# Altium integrated library ICs.IntLib: 97 symbols (part 2 of 3)
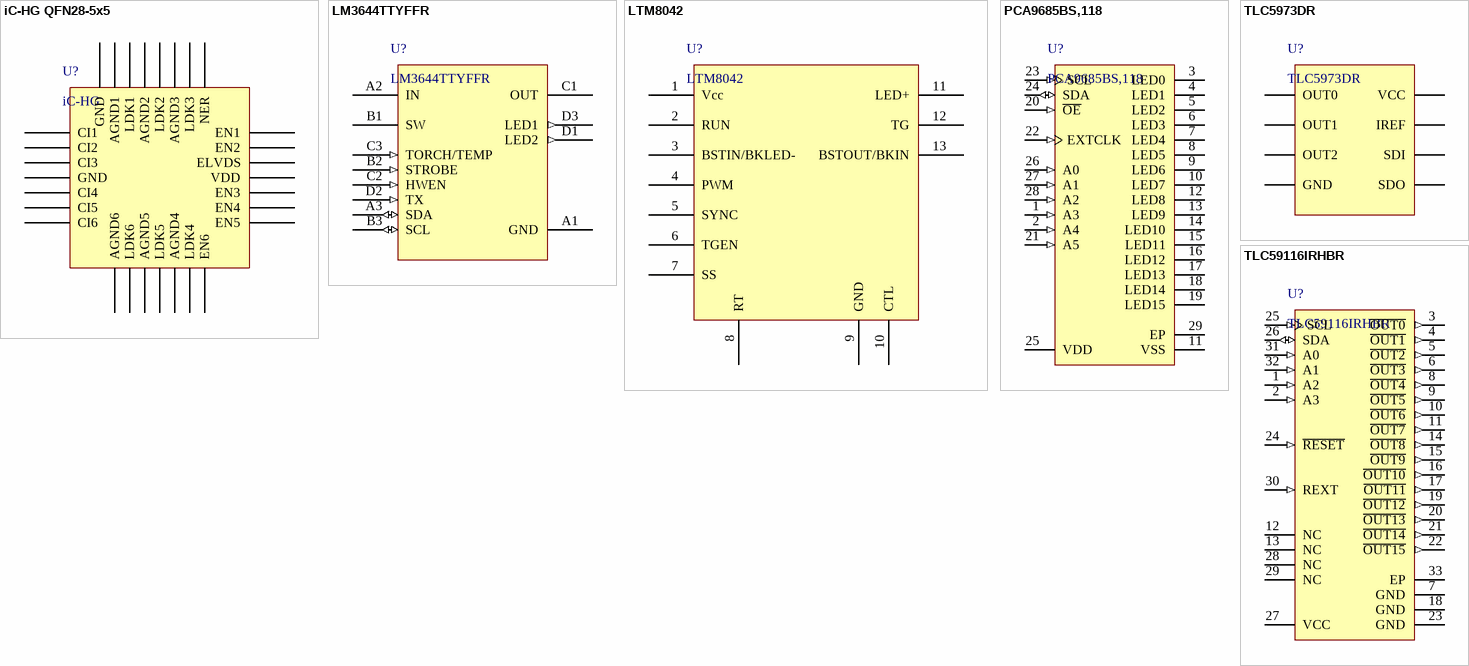
[diagram p37: symbols iC-HG QFN28-5x5 to TLC59116IRHBR]

## TLC59116IRHBR
designator U?
IC LED DRVR LIN DIM 120MA 32VQFN; Manufacturer: Texas Instruments; PartNumber: TLC59116IRHBR; PackageReference: QFN-32; Mounting Technology: Surface Mount
footprint VQFN-32 (QFN, 32-Leads, Body 5x5mm, Pitch 0.5mm, Thermal Pad 3.45x3.45mm)
pins: 1 A2 (in) "Address input 2", 2 A3 (in) "Address input 3", 3 ~{OUT0} (out) "Constant current output 0", 4 ~{OUT1} (out) "Constant current output 1", 5 ~{OUT2} (out) "Constant current output 2", 6 ~{OUT3} (out) "Constant current output 3", 7 GND (power) "Ground", 8 ~{OUT4} (out) "Constant current output 4", 9 ~{OUT5} (out) "Constant current output 5", 10 ~{OUT6} (out) "Constant current output 6", 11 ~{OUT7} (out) "Constant current output 7", 12 NC "No internal connection", 13 NC "No internal connection", 14 ~{OUT8} (out) "Constant current output 8", 15 ~{OUT9} (out) "Constant current output 9", 16 ~{OUT10} (out) "Constant current output 10", 17 ~{OUT11} (out) "Constant current output 11", 18 GND (power) "Ground", 19 ~{OUT12} (out) "Constant current output 12", 20 ~{OUT13} (out) "Constant current output 13", 21 ~{OUT14} (out) "Constant current output 14", 22 ~{OUT15} (out) "Constant current output 15", 23 GND (power) "Ground", 24 ~{RESET} (in) "Active-low reset input", 25 SCL (in) "Serial clock input", 26 SDA (io) "Serial data input/output", 27 VCC (power) "Power supply", 28 NC "No internal connection", 29 NC "No internal connection", 30 REXT (in) "Input terminal used to connect an external resistor for setting up all output currents", 31 A0 (in) "Address input 0", 32 A1 (in) "Address input 1", 33 EP (power) "If used, the exposed thermal pad must be connected as a secondary ground."


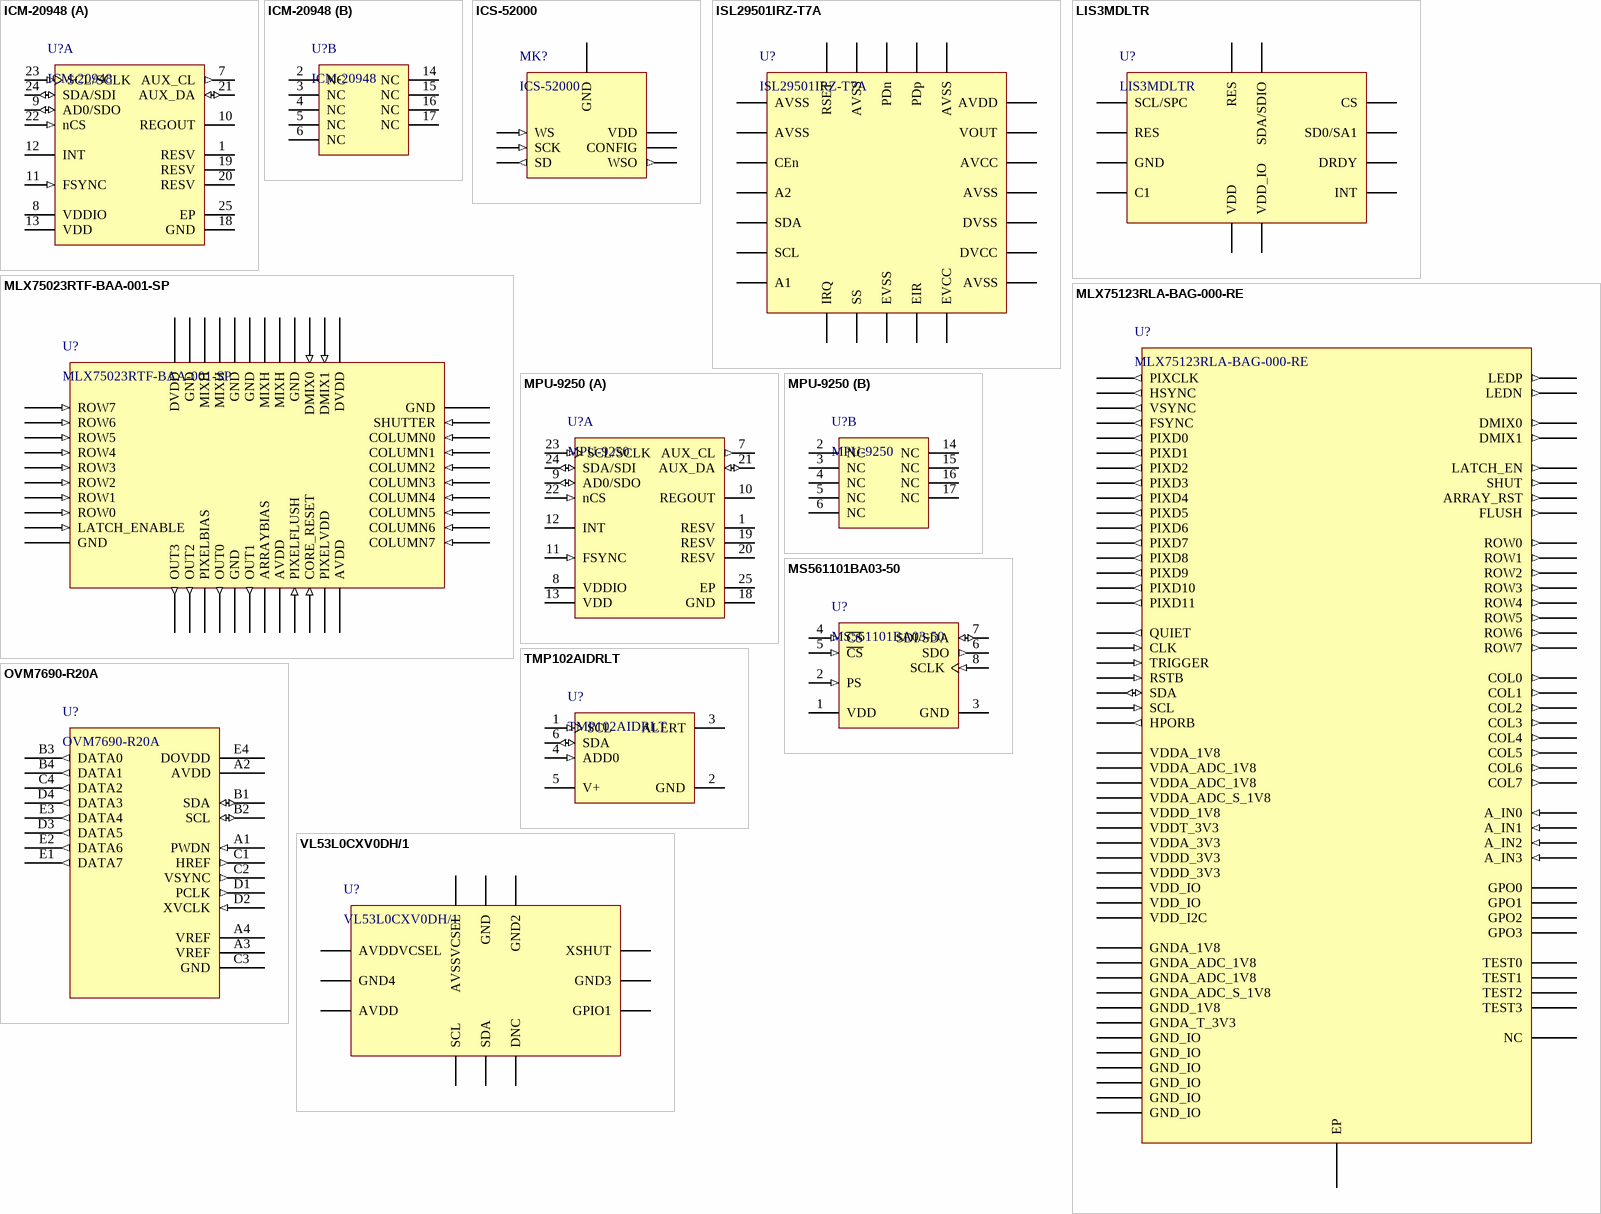
[diagram p19: symbols ICM-20948 to VL53L0CXV0DH/1]

## ICM-20948
designator U?
Manufacturer: Invensense; PartNumber: ICM-20948; Mounting Technology: Surface Mount; PackageReference: QFN-24
footprint QFN-24 (0.4MM) (QFN, 24-Leads, Body 3.1x3.1mm, Pitch 0.40mm, Thermal Pad 1.54x1.70mm, IPC High Density)
part A pins: 1 RESV (power) "Reserved. Connect to VDDIO", 7 AUX_CL (out) "I2C Master serial clock, for connecting to external sensors", 8 VDDIO (power) "Digital I/O supply voltage", 9 AD0/SDO (io) "I2C Slave Address LSB (AD0); SPI serial data output (SDO)", 10 REGOUT "Regulator filter capacitor connection", 11 FSYNC (in) "Frame synchronization digital input. Connect to GND if unused", 12 INT (hiz) "Interrupt digital output (totem pole or open-drain)", 13 VDD (power) "Power supply voltage and Digital I/O supply voltage", 18 GND (power) "Pow er supply ground", 19 RESV "Reserved. Do not connect", 20 RESV (power) "Reserved. Connect to GND", 21 AUX_DA (io) "I2C master serial data, for connecting to external sensors", 22 nCS (in) "Chip select (SPI mode only)", 23 SCL/SCLK (in) "I2C serial clock (SCL); SPI serial clock (SCLK)", 24 SDA/SDI (io) "I2C serial data (SDA); SPI serial data input (SDI)", 25 EP
part B pins: 2 NC "Not internally connected. May be used for PCB trace routing", 3 NC "Not internally connected. May be used for PCB trace routing", 4 NC "Not internally connected. May be used for PCB trace routing", 5 NC "Not internally connected. May be used for PCB trace routing", 6 NC "Not internally connected. May be used for PCB trace routing", 14 NC "Not internally connected. May be used for PCB trace routing", 15 NC "Not internally connected. May be used for PCB trace routing", 16 NC "Not internally connected. May be used for PCB trace routing", 17 NC "Not internally connected. May be used for PCB trace routing"

## ICS-52000
designator MK?
MIC MEMS DIGITAL OMNI -26DB; Manufacturer: TDK InvenSense; PartNumber: ICS-52000; Mounting Technology: Surface Mount; PackageReference: LGA-7
footprint LGA-7
pins: 1 WSO (out), 2 CONFIG, 3 VDD (power), 4 GND (power), 5 WS (in), 6 SCK (in), 7 SD (out)

## ISL29501IRZ-T7A
designator U?
IC TOF SIGNAL PROCESSOR 24QFN; Manufacturer: Intersil; PartNumber: ISL29501IRZ-T7A; Mounting Technology: Surface Mount; PackageReference: QFN-24
footprint QFN-24 (QFN, 24-Leads, Body 4.00x4.00mm, Pitch 0.50mm, Thermal Pad 2.60x3.60mm, IPC Medium Density); pin to pad 23>23+25
pins: 1 AVSS, 2 AVSS, 3 CEn, 4 A2 (power), 5 SDA, 6 SCL, 7 A1, 8 IRQ, 9 SS, 10 EVSS, 11 EIR, 12 EVCC, 13 AVSS, 14 DVCC, 15 DVSS, 16 AVSS, 17 AVCC, 18 VOUT, 19 AVDD, 20 AVSS, 21 PDp, 22 PDn, 23 AVSS, 24 RSET

## LIS3MDLTR
designator U?
Board Mount Hall Effect / Magnetic Sensors Ultra Lo-Pwr Hi Perf 3-Axis 1.9-3.6V; Manufacturer: STMicroelectronics; PartNumber: LIS3MDLTR; Mounting Technology: Surface Mount; PackageReference: LGA-12
footprint LGA-12 (2x2MM) (LGA, 12-Leads, Body 2.00x2.00mmx1.00mm, Pitch 0.50mm)
pins: 1 SCL/SPC, 2 RES, 3 GND, 4 C1, 5 VDD, 6 VDD_IO, 7 INT, 8 DRDY, 9 SD0/SA1, 10 CS, 11 SDA/SDIO, 12 RES

## MLX75023RTF-BAA-001-SP
designator U?
Manufacturer: Melexis; PartNumber: MLX75023RTF-BAA-001-SP; Mounting Technology: Surface Mount; PackageReference: BGA-44
footprint BGA-44 (BGA, 44-Leads, Body 6.61x5.48mmx0.50mm, Pitch 0.48mm)
pins: 1 ROW7 (in), 2 ROW6 (in), 3 ROW5 (in), 4 ROW4 (in), 5 ROW3 (in), 6 ROW2 (in), 7 ROW1 (in), 8 ROW0 (in), 9 LATCH_ENABLE (in), 10 GND (power), 11 OUT3 (out), 12 OUT2 (out), 13 PIXELBIAS, 14 OUT0 (out), 15 GND (power), 16 OUT1 (out), 17 ARRAYBIAS, 18 AVDD (power), 19 PIXELFLUSH (in), 20 CORE_RESET (in), 21 PIXELVDD (power), 22 AVDD (power), 23 COLUMN7 (in), 24 COLUMN6 (in), 25 COLUMN5 (in), 26 COLUMN4 (in), 27 COLUMN3 (in), 28 COLUMN2 (in), 29 COLUMN1 (in), 30 COLUMN0 (in), 31 SHUTTER (in), 32 GND (power), 33 DVDD (power), 34 DMIX1 (in), 35 DMIX0 (in), 36 GND (power), 37 MIXH (power), 38 MIXH (power), 39 GND (power), 40 GND (power), 41 MIXH (power), 42 MIXH (power), 43 GND (power), 44 DVDD (power)

## MLX75123RLA-BAG-000-RE
designator U?
Sensor Interface ToF Companion Chip; Manufacturer: Melexis; PackageReference: AQFN-84; Mounting Technology: Surface Mount; PartNumber: MLX75123RLA-BAG-000-RE
footprint AQFN-84 (Double Row QFN, 84-Leads, Body 7.00x7.00mm, Pitch 0.50mm, Thermal Pad 3.60x3.60mm, IPC High Density)
pins: A1 ROW5 (out), A2 ROW7 (out), A3 ARRAY_RST (out), A4 LATCH_EN (out), A5 GNDA_ADC_1V8 (power), A6 A_IN1 (in), A7 A_IN2 (in), A8 GND_IO (power), A9 VDDA_ADC_1V8 (power), A10 VDDA_ADC_S_1V8 (power), A11 TEST2, A12 SCL (in), A13 TRIGGER (in), A14 RSTB (in), A15 QUIET (out), A16 GNDA_1V8 (power), A17 TEST0, A18 GNDA_T_3V3 (power), A19 HPORB (out), A20 GPO1, A21 GPO3, A22 GNDD_1V8 (power), A23 NC, A24 GND_IO (power), A25 PIXD10 (out), A26 PIXD8 (out), A27 PIXD6 (out), A28 PIXD4 (out), A29 PIXD2 (out), A30 PIXD0 (out), A31 FSYNC (out), A32 VSYNC (out), A33 GND_IO (power), A34 LEDN (out), A35 DMIX0 (out), A36 VDDD_3V3 (power), A37 COL7 (out), A38 COL5 (out), A39 COL3 (out), A40 COL1 (out), A41 GND_IO (power), A42 ROW0 (out), A43 ROW2 (out), A44 ROW4 (out), B1 ROW6 (out), B2 SHUT (out), B3 FLUSH (out), B4 VDDA_3V3 (power), B5 VDDA_ADC_1V8 (power), B6 A_IN0 (in), B7 A_IN3 (in), B8 GNDA_ADC_1V8 (power), B9 GNDA_ADC_S_1V8 (power), B10 TEST3, B11 SDA (io), B12 VDD_I2C (power), B13 CLK (in), B14 VDDA_1V8 (power), B15 GND_IO (power), B16 TEST1, B17 VDDT_3V3 (power), B18 GPO0, B19 GPO2, B20 VDDD_1V8 (power), B21 VDD_IO (power), B22 PIXD11 (out), B23 PIXD9 (out), B24 PIXD7 (out), B25 PIXD5 (out), B26 PIXD3 (out), B27 PIXD1 (out), B28 PIXCLK (out), B29 HSYNC (out), B30 VDD_IO (power), B31 LEDP (out), B32 DMIX1 (out), B33 GND_IO (power), B34 COL6 (out), B35 COL4 (out), B36 COL2 (out), B37 COL0 (out), B38 VDDD_3V3 (power), B39 ROW1 (out), B40 ROW3 (out), EP

## MPU-9250
designator U?
Manufacturer: Invensense; PartNumber: MPU-9250; Mounting Technology: Surface Mount; PackageReference: QFN-24
footprint QFN-24 (0.4MM) (QFN, 24-Leads, Body 3.1x3.1mm, Pitch 0.40mm, Thermal Pad 1.54x1.70mm, IPC High Density)
part A pins: 1 RESV (power) "Reserved. Connect to VDDIO", 7 AUX_CL (out) "I2C Master serial clock, for connecting to external sensors", 8 VDDIO (power) "Digital I/O supply voltage", 9 AD0/SDO (io) "I2C Slave Address LSB (AD0); SPI serial data output (SDO)", 10 REGOUT "Regulator filter capacitor connection", 11 FSYNC (in) "Frame synchronization digital input. Connect to GND if unused", 12 INT (hiz) "Interrupt digital output (totem pole or open-drain)", 13 VDD (power) "Power supply voltage and Digital I/O supply voltage", 18 GND (power) "Pow er supply ground", 19 RESV "Reserved. Do not connect", 20 RESV (power) "Reserved. Connect to GND", 21 AUX_DA (io) "I2C master serial data, for connecting to external sensors", 22 nCS (in) "Chip select (SPI mode only)", 23 SCL/SCLK (in) "I2C serial clock (SCL); SPI serial clock (SCLK)", 24 SDA/SDI (io) "I2C serial data (SDA); SPI serial data input (SDI)", 25 EP
part B pins: 2 NC "Not internally connected. May be used for PCB trace routing", 3 NC "Not internally connected. May be used for PCB trace routing", 4 NC "Not internally connected. May be used for PCB trace routing", 5 NC "Not internally connected. May be used for PCB trace routing", 6 NC "Not internally connected. May be used for PCB trace routing", 14 NC "Not internally connected. May be used for PCB trace routing", 15 NC "Not internally connected. May be used for PCB trace routing", 16 NC "Not internally connected. May be used for PCB trace routing", 17 NC "Not internally connected. May be used for PCB trace routing"

## MS561101BA03-50
designator U?
BAROMETRIC PRESSURE SENSOR; Manufacturer: TE Connectivity Measurement Specialties; PartNumber: MS561101BA03-50; PackageReference: 8-SMD; Mounting Technology: Surface Mount
footprint QFN-8 (5x3MM) (SMD, 8-Leads, Body 5x3mm, Pitch 1.25mm)
pins: 1 VDD (power) "Positive supply voltage", 2 PS (in) "Protocol select", 3 GND (power) "Ground", 4 ~{CS} (in) "Chip select (active low), internal connection", 5 ~{CS} (in) "Serial data output", 6 SDO (out) "Serial data output", 7 SDI/SDA (io), 8 SCLK (in) "Serial data clock"

## OVM7690-R20A
designator U?
SENSOR CAMERA CMOS 20CAMERACUBE; Manufacturer: OmniVision Technologies; PartNumber: OVM7690-R20A; PackageReference: 20-CAMERACUBE; Mounting Technology: Surface Mount
pins: A1 PWDN (in), A2 AVDD (power), A3 VREF (power), A4 VREF (power), B1 SDA (io), B2 SCL (io), B3 DATA0 (out), B4 DATA1 (out), C1 HREF (out), C2 VSYNC (out), C3 GND (power), C4 DATA2 (out), D1 PCLK (out), D2 XVCLK (in), D3 DATA5 (out), D4 DATA3 (out), E1 DATA7 (out), E2 DATA6 (out), E3 DATA4 (out), E4 DOVDD (power)

## TMP102AIDRLT
designator U?
SENSOR DIGITAL -40C-125C SOT563; Manufacturer: Texas Instruments; PackageReference: SOT-563; PartNumber: TMP102AIDRLT; Mounting Technology: Surface Mount
footprint SOT-563 (SOT23, 6-Leads, Body 1.7x1.3mm, Pitch 0.5mm, IPC High Density)
pins: 1 SCL (in) "Serial clock. Open-drain output; requires a pullup resistor.", 2 GND (power) "Ground", 3 ALERT (oc) "Overtemperature alert. Open-drain output; requires a pullup resistor.", 4 ADD0 (in) "Address select. Connect to GND or V+", 5 V+ (power) "Supply voltage, 1.4 V to 3.6 V", 6 SDA (io) "Serial data. Open-drain output; requires a pullup resistor."

## VL53L0CXV0DH/1
designator U?
Optical Sensor Modules Time-of-Flight (ToF) ranging sensor; Manufacturer: STMicroelectronics; PartNumber: VL53L0CXV0DH/1; Mounting Technology: Surface Mount; PackageReference: LGA-12
footprint LGA-12 (LGA, 12-Leads, Body 4.40x2.40mmx1.05mm, Pitch 0.80mm)
pins: 1 AVDDVCSEL, 2 AVSSVCSEL, 3 GND, 4 GND2, 5 XSHUT, 6 GND3, 7 GPIO1, 8 DNC, 9 SDA, 10 SCL, 11 AVDD, 12 GND4


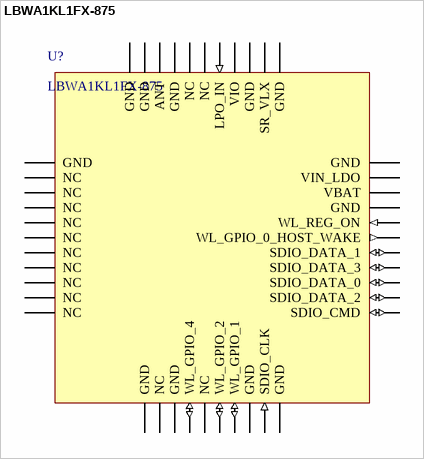
[diagram p20: symbol LBWA1KL1FX-875]

## LBWA1KL1FX-875
designator U?
WI-FI-B/G/N NETWORK CONTROLLER; Manufacturer: Murata; PartNumber: LBWA1KL1FX-875; PackageReference: Module; Mounting Technology: Surface Mount
footprint LGA-42 (LGA, 42-Leads, Body 5.15x6.95mmx1.10mm, Pitch 0.45mm)
pins: 1 GND, 2 NC, 3 NC, 4 NC, 5 NC, 6 NC, 7 NC, 8 NC, 9 NC, 10 NC, 11 NC, 12 GND, 13 NC, 14 GND, 15 WL_GPIO_4 (io), 16 NC, 17 WL_GPIO_2 (io), 18 WL_GPIO_1 (io), 19 GND, 20 SDIO_CLK (in), 21 GND, 22 SDIO_CMD (io), 23 SDIO_DATA_2 (io), 24 SDIO_DATA_0 (io), 25 SDIO_DATA_3 (io), 26 SDIO_DATA_1 (io), 27 WL_GPIO_0_HOST_WAKE (out), 28 WL_REG_ON (in), 29 GND, 30 VBAT, 31 VIN_LDO, 32 GND, 33 GND, 34 SR_VLX, 35 GND, 36 VIO, 37 LPO_IN (in), 38 NC, 39 NC, 40 GND, 41 ANT, 42 GND, 43 GND


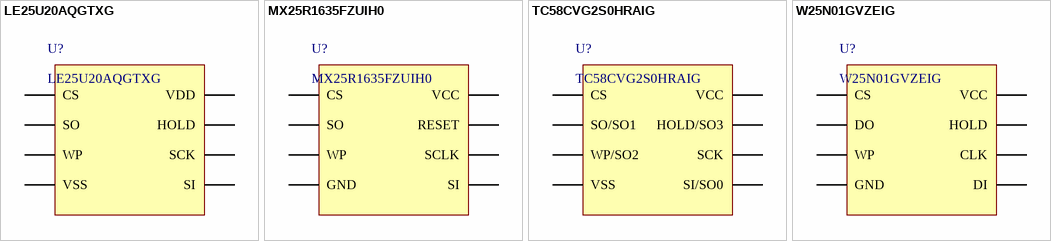
[diagram p21: symbols LE25U20AQGTXG to W25N01GVZEIG]

## LE25U20AQGTXG
designator U?
IC FLASH 2M SPI 30MHZ 8WDFN; Manufacturer: ON Semiconductor; PartNumber: LE25U20AQGTXG; Mounting Technology: Surface Mount; PackageReference: WDFN-8
footprint WDFN-8 (2x3MM) (SON, 8-Leads, Body 2.00x3.00mm, Pitch 0.50mm, Thermal Pad 1.50x1.88mm, IPC Medium Density)
pins: 1 CS, 2 SO, 3 WP, 4 VSS, 5 SI (power), 6 SCK, 7 HOLD, 8 VDD

## MX25R1635FZUIH0
designator U?
Manufacturer: Macronix; PartNumber: MX25R1635FZUIH0; Mounting Technology: Surface Mount; PackageReference: USON-8
footprint USON-8 (SON, 8-Leads, Body 2.00x3.00mm, Pitch 0.50mm, Thermal Pad 1.60x0.20mm, IPC Medium Density); pin to pad 4>4+9
pins: 1 CS, 2 SO, 3 WP, 4 GND, 5 SI (power), 6 SCLK, 7 RESET, 8 VCC

## TC58CVG2S0HRAIG
designator U?
IC FLASH 4G SPI 104MHZ 8WSON; Manufacturer: Toshiba Memory America, Inc.; PartNumber: TC58CVG2S0HRAIG; Mounting Technology: Surface Mount; PackageReference: WSON-8
footprint WSON-8 (6X8MM) (SON, 8-Leads, Body 6.00x8.00mm, Pitch 1.27mm, Thermal Pad 5.20x4.65mm, IPC Medium Density); pin to pad 4>4+9
pins: 1 CS, 2 SO/SO1, 3 WP/SO2, 4 VSS, 5 SI/SO0 (power), 6 SCK, 7 HOLD/SO3, 8 VCC

## W25N01GVZEIG
designator U?
Manufacturer: Winbond Electronics; PartNumber: W25N01GVZEIG; Mounting Technology: Surface Mount; PackageReference: WSON-8
footprint WSON-8 (6X8MM) (SON, 8-Leads, Body 6.00x8.00mm, Pitch 1.27mm, Thermal Pad 5.20x4.65mm, IPC Medium Density); pin to pad 4>4+9
pins: 1 CS, 2 DO, 3 WP, 4 GND, 5 DI (power), 6 CLK, 7 HOLD, 8 VCC


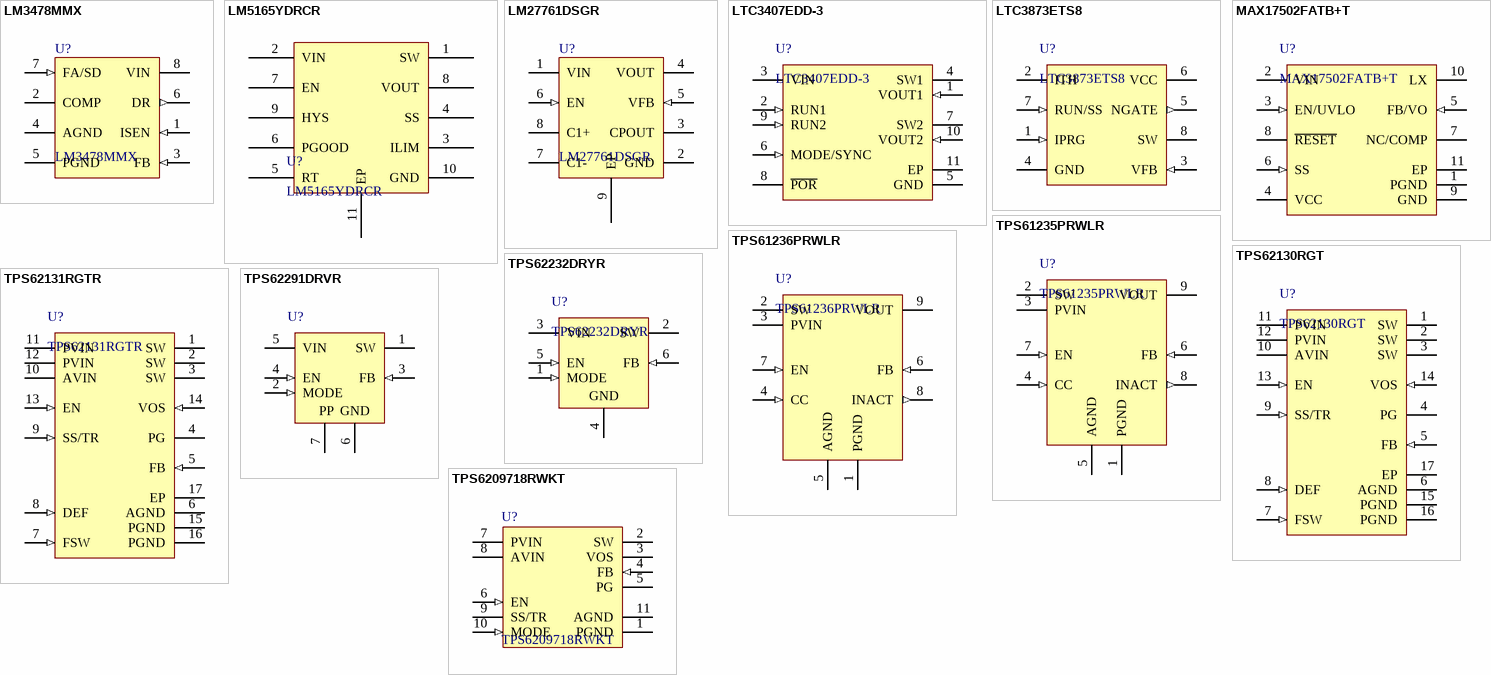
[diagram p22: symbols LM3478MMX to TPS6209718RWKT]

## LM3478MMX
designator U?
High Efficiency Low-Side N-Channel Controller for Switching Regulator, 8-pin MSOP, Pb-Free, 1000 Reel; PartNumber: LM3478MMX/NOPB; Manufacturer: Texas Instruments; Mounting Technology: Surface Mount; PackageReference: MSOP-8
footprint MSOP-8 (SOP, 8-Leads, Body 3x3mm, Pitch 0.65mm, IPC Medium Density)
pins: 1 ISEN (in), 2 COMP, 3 FB (in), 4 AGND (power), 5 PGND (power), 6 DR (out), 7 FA/SD (in), 8 VIN (power)

## LM5165YDRCR
designator U?
LM5165 3-V to 65-V Input, 150-mA Synchronous Buck Converter; Manufacturer: Texas Instruments; PartNumber: LM5165YDRCR; Mounting Technology: Surface Mount; PackageReference: VSON-10
footprint VSON-10 (3mmx3mm) (VSON, 10-Leads, Body 3.00x3.00mm, Pitch 0.50mm, Thermal Pad 2.40x1.49mm, IPC Medium Density)
pins: 1 SW, 2 VIN, 3 ILIM, 4 SS, 5 RT, 6 PGOOD, 7 EN, 8 VOUT, 9 HYS, 10 GND, 11 EP

## LM27761DSGR
designator U?
Switching Voltage Regulators Switch Cap Boost; Manufacturer: Texas Instruments; PartNumber: LM27761DSGR; Mounting Technology: Surface Mount; PackageReference: WSON-8
footprint WSON-8 (SON, 8-Leads, Body 2.00x2.00mm, Pitch 0.50mm, Thermal Pad 1.60x0.69mm, IPC Medium Density)
pins: 1 VIN (power), 2 GND (power), 3 CPOUT (power), 4 VOUT (power), 5 VFB (in), 6 EN (in), 7 C1- (power), 8 C1+ (power), 9 EP

## LTC3407EDD-3
designator U?
Manufacturer: Linear Technology; PartNumber: LTC3407EDD-3; PackageReference: SON-10; Mounting Technology: Surface Mount
footprint VSON-10 (3mmx3mm) (VSON, 10-Leads, Body 3.00x3.00mm, Pitch 0.50mm, Thermal Pad 2.40x1.49mm, IPC Medium Density)
pins: 1 VOUT1 (in) "Output Voltage Feedback Pin for Channel 1. An internal resistive divider divides the output voltage down for comparison to the internal reference voltage.", 2 RUN1 (in) "Regulator 1 Enable. Forcing this pin to VIN enables regulator 1, while forcing it to GND causes regulator 1 to shut down. Do not float this pin.", 3 VIN (power) "Main Power Supply. Must be closely decoupled to GND.", 4 SW1 (power) "Regulator 1 Switch Node Connection to the Inductor. This pin swings from VIN to GND", 5 GND (power) "Ground. This pin is not connected internally. Connect to PCB ground for shielding", 6 MODE/SYNC (in) "Combination Mode Selection and Oscillator Synchronization. This pin controls the operation of the device. When tied to VIN or GND, Burst Mode operation or pulse-skipping mode is selected, respectively. The oscillation (See Datasheet)", 7 SW2 (power) "Regulator 2 Switch Node Connection to the Inductor. This pin swings from VIN to GND.", 8 ~{POR} (oc) "Power-On Reset . This common-drain logic output is pulled to GND when the output voltage falls below -8.5% of regulation and goes high after 117ms when both channels are within regulation.", 9 RUN2 (in) "Regulator 2 Enable. Forcing this pin to VIN enables regulator 2, while forcing it to GND causes regulator 2 to shut down. Do not float this pin", 10 VOUT2 (in) "Output Voltage Feedback Pin for Channel 2. An internal resistive divider divides the output voltage down for comparison to the internal reference voltage.", 11 EP (power) "Power Ground. Connect to the (-) terminal of COUT, and (-) terminal of CIN. Must be connected to electrical ground on PCB."

## LTC3873ETS8
designator U?
PartNumber: LTC3873ETS8#PBF; Manufacturer: Linear Technology; PackageReference: TSOT-23-8; Mounting Technology: Surface Mount
footprint SOT-23-8 (SOT23, 8-Leads, Body 2.90x1.60mm, Pitch 0.65mm, IPC Medium Density)
pins: 1 IPRG (in) "Current Sense Limit Select Pin.", 2 ITH "This pin serves as the error ampli?er compensation point. Nominal voltage range for this pin is 0.7V to 1.9V.", 3 VFB (in) "This pin receives the feedback voltage from an external resistor divider across the output.", 4 GND (power) "Ground Pin.", 5 NGATE (out) "Gate Drive for the External N-Channel MOSFET. This pin swings from 0V to VIN.", 6 VCC (power) "Supply Pin. This pin must be closely decoupled to GND (Pin 4).", 7 RUN/SS (in) "Shutdown and External Soft-Start Pin. In shutdown, all functions are disabled and the NGATE pin is held low.", 8 SW "Switch node connection to inductor and current sense input pin through external slope compensation resistor. Normally, the external N-channel MOSFET’s drain is connected to this pin."

## MAX17502FATB+T
designator U?
Ultra-Small, High-Efficiency, Synchronous Step-Down DC-DC Converter, 4.5 to 60 V, 1 A, -40 to 125 degC, 10-Pin TDFN (T1032N+1), RoHS, Tape and Reel; Manufacturer: Maxim Integrated; PartNumber: MAX17502FATB+T; Mounting Technology: Surface Mount; PackageReference: TDFN-10-EP
footprint TDFN-10-EP (TDFN, 10-Leads, Body 2x3mm, Pitch 0.50mm, Thermal Pad 0.8x2.08mm)
pins: 1 PGND (power) "Power Ground. Connect PGND externally to the power ground plane. Connect GND and PGND pins together at the ground return path of the VCC bypass capacitor.", 2 VIN (power) "Power-Supply Input. The input supply range is from 4.5V to 60V.", 3 EN/UVLO (in) "Enable/Undervoltage Lockout Input. Drive EN/UVLO high to enable the output voltage. Connect to the center of the resistive divider between VIN and GND to set the input voltage (undervoltage threshold) at which the device turns on. Pull up to VIN for always on.", 4 VCC (power) "5V LDO Output. Bypass VCC with 1uF ceramic capacitance to GND.", 5 FB/VO (in) "Feedback Input. For fixed output voltage devices, directly connect FB/VO to the output. For adjustable output voltage devices, connect FB/VO to the center of the resistive divider between VOUT and GND.", 6 SS (in) "Soft-Start Input. Connect a capacitor from SS to GND to set the soft-start time", 7 NC/COMP "For fixed output voltage devices, leave this pin unconnected. For adjustable output voltage devices, connect an RC network from COMP to GND.", 8 ~{RESET} (oc) "Open-Drain R\E\S\E\T\ Output. The R\E\S\E\T\ output is driven low if FB drops below 92.5% of its set value. R\E\S\E\T\ goes high 1024 clock cycles after FB rises above 95.5% of its set value. R\E\S\E\T\ is valid when the device is enabled and VIN is above 4.5V", 9 GND (power) "Analog Ground", 10 LX "Switching Node. Connect LX to the switching side of the inductor. LX is high impedance when the device is in shutdown mode.", 11 EP (power) "Exposed Pad. Connect to the GND pin of the IC. Connect to a large copper plane below the IC to improve heat dissipation capability."

## TPS61235PRWLR
designator U?
Manufacturer: Texas Instruments; PartNumber: TPS61235PRWLR; PackageReference: VQFN-9; Mounting Technology: Surface Mount
footprint VQFN-9
pins: 1 PGND (power) "Power ground", 2 SW (power) "Supply voltage for power stage. Connect to same source as AVIN", 3 PVIN (power) "Supply voltage for power stage. Connect to same source as AVIN", 4 CC (in) "Soft-Start/Tracking Pin .An external capacitor connected to this pin sets the internal voltage reference rise time .It can be used for tracking and sequencing.", 5 AGND (power) "Analog Ground", 6 FB (in) "Output voltage sense pin and connection for the control loop circuitry.", 7 EN (in) "Enable input (High = enabled, Low = disabled)", 8 INACT (out) "Voltage feedback of adjustable version. Connect resistive voltage divider to this pin. It is recommended to connect FB to AGND on fixed output voltage versions for improved thermal performance", 9 VOUT (power) "Switch node, which is connected to the internal MOSFET switches. Connect inductor between SW and output capacitor"

## TPS61236PRWLR
designator U?
Manufacturer: Texas Instruments; PartNumber: TPS61236PRWLR; PackageReference: VQFN-9; Mounting Technology: Surface Mount
footprint VQFN-9
pins: 1 PGND (power) "Power ground", 2 SW (power) "Supply voltage for power stage. Connect to same source as AVIN", 3 PVIN (power) "Supply voltage for power stage. Connect to same source as AVIN", 4 CC (in) "Soft-Start/Tracking Pin .An external capacitor connected to this pin sets the internal voltage reference rise time .It can be used for tracking and sequencing.", 5 AGND (power) "Analog Ground", 6 FB (in) "Output voltage sense pin and connection for the control loop circuitry.", 7 EN (in) "Enable input (High = enabled, Low = disabled)", 8 INACT (out) "Voltage feedback of adjustable version. Connect resistive voltage divider to this pin. It is recommended to connect FB to AGND on fixed output voltage versions for improved thermal performance", 9 VOUT (power) "Switch node, which is connected to the internal MOSFET switches. Connect inductor between SW and output capacitor"

## TPS62130RGT
designator U?
Manufacturer: Texas Instruments; PartNumber: TPS62130RGT; PackageReference: QFN-16; Mounting Technology: Surface Mount
footprint QFN-16 (QFN, 16-Leads, Body 3.00x3.00mm, Pitch 0.50mm, Thermal Pad 1.80x1.80mm, IPC Medium Density)
pins: 1 SW (power) "Switch node, which is connected to the internal MOSFET switches. Connect inductor between SW and output capacitor", 2 SW (power) "Switch node, which is connected to the internal MOSFET switches. Connect inductor between SW and output capacitor", 3 SW (power) "Switch node, which is connected to the internal MOSFET switches. Connect inductor between SW and output capacitor", 4 PG (hiz) "Output power good (High = VOUT ready, Low = VOUT below nominal regulation) ; open drain (requires pull-up resistor; goes high impedance, when device is switched off)", 5 FB (in) "Voltage feedback of adjustable version. Connect resistive voltage divider to this pin. It is recommended to connect FB to AGND on fixed output voltage versions for improved thermal performance", 6 AGND (power) "Analog Ground", 7 FSW (in) "Switching Frequency Select (Low ˜ 2.5MHz, High ˜ 1.25MHz for typical operation)", 8 DEF (in) "Output Voltage Scaling (Low = nominal, High = nominal + 5%)", 9 SS/TR (in) "Soft-Start/Tracking Pin .An external capacitor connected to this pin sets the internal voltage reference rise time .It can be used for tracking and sequencing.", 10 AVIN (power) "Supply voltage for control circuitry. Connect to same source as PVIN.", 11 PVIN (power) "Supply voltage for power stage. Connect to same source as AVIN", 12 PVIN (power) "Supply voltage for power stage. Connect to same source as AVIN", 13 EN (in) "Enable input (High = enabled, Low = disabled)", 14 VOS (in) "Output voltage sense pin and connection for the control loop circuitry.", 15 PGND (power) "Power ground", 16 PGND (power) "Power ground", 17 EP (power) "Must be connected to AGND. Must be soldered to achieve appropriate power dissipation and mechanical reliability"

## TPS62131RGTR
designator U?
Manufacturer: Texas Instruments; PartNumber: TPS62131RGTR; PackageReference: QFN-16; Mounting Technology: Surface Mount
footprint QFN-16 (QFN, 16-Leads, Body 3.00x3.00mm, Pitch 0.50mm, Thermal Pad 1.80x1.80mm, IPC Medium Density)
pins: 1 SW (power) "Switch node, which is connected to the internal MOSFET switches. Connect inductor between SW and output capacitor", 2 SW (power) "Switch node, which is connected to the internal MOSFET switches. Connect inductor between SW and output capacitor", 3 SW (power) "Switch node, which is connected to the internal MOSFET switches. Connect inductor between SW and output capacitor", 4 PG (hiz) "Output power good (High = VOUT ready, Low = VOUT below nominal regulation) ; open drain (requires pull-up resistor; goes high impedance, when device is switched off)", 5 FB (in) "Voltage feedback of adjustable version. Connect resistive voltage divider to this pin. It is recommended to connect FB to AGND on fixed output voltage versions for improved thermal performance", 6 AGND (power) "Analog Ground", 7 FSW (in) "Switching Frequency Select (Low ˜ 2.5MHz, High ˜ 1.25MHz for typical operation)", 8 DEF (in) "Output Voltage Scaling (Low = nominal, High = nominal + 5%)", 9 SS/TR (in) "Soft-Start/Tracking Pin .An external capacitor connected to this pin sets the internal voltage reference rise time .It can be used for tracking and sequencing.", 10 AVIN (power) "Supply voltage for control circuitry. Connect to same source as PVIN.", 11 PVIN (power) "Supply voltage for power stage. Connect to same source as AVIN", 12 PVIN (power) "Supply voltage for power stage. Connect to same source as AVIN", 13 EN (in) "Enable input (High = enabled, Low = disabled)", 14 VOS (in) "Output voltage sense pin and connection for the control loop circuitry.", 15 PGND (power) "Power ground", 16 PGND (power) "Power ground", 17 EP (power) "Must be connected to AGND. Must be soldered to achieve appropriate power dissipation and mechanical reliability"

## TPS62232DRYR
designator U?
Switching Voltage Regulators 3 MHz Ultra Small Step Down Converter; Manufacturer: Texas Instruments; PartNumber: TPS62232DRYR; PackageReference: USON-6; Mounting Technology: Surface Mount
footprint USON-6 (SON, 6-Leads, Body 1.45x1mm, Pitch 0.5mm)
pins: 1 MODE (in) "MODE pin = high forces the device to operate in PWM mode. Mode = low enables the Power Save Mode with automatic transition from PFM (Pulse frequency mode) to PWM (pulse width modulation) mode.", 2 SW (power) "This is the switch pin and is connected to the internal MOSFET switches. Connect the inductor to this terminal", 3 VIN (power) "VIN power supply pin.", 4 GND (power) "GND supply pin", 5 EN (in) "This is the enable pin of the device. Pulling this pin to low forces the device into shutdown mode. Pulling this pin to high enables the device. This pin must be terminated.", 6 FB (in) "Feedback Pin for the internal regulation loop. Connect this pin directly to the output capacitor."

## TPS62291DRVR
designator U?
Voltage Regulators - Switching Regulators 2.25MHz 1A Step-Down Cnvrtr 3.3V Output; PartNumber: TPS62291DRVR; Manufacturer: Texas Instruments; PackageReference: WSON-6; PackageDescription: SON, 6-Leads, Body 2x2mm, Pitch 0.65mm, Thermal Pad 1.6x1mm, TI Recommended; Mounting Technology: Surface Mount
footprint WSON-6 (SON, 6-Leads, Body 2x2mm, Pitch 0.65mm, Thermal Pad 1.6x1mm, TI Recommended)
pins: 1 SW (power) "This is the switch pin and is connected to the internal MOSFET switches. Connect the external inductor between this terminal and the output capacitor.", 2 MODE (in) "MODE pin = high forces the device to operate in fixed-frequency PWM mode. Mode pin = low enables the Power Save Mode with automatic transition from PFM mode to fixed-frequency PWM mode", 3 FB (in) "Feedback Pin for the internal regulation loop. Connect the external resistor divider to this pin. In case of fixed output voltage option, connect this pin directly to the output capacitor", 4 EN (in) "This is the enable pin of the device. Pulling this pin to low forces the device into shutdown mode. Pulling this pin to high enables the device. This pin must be terminated.", 5 VIN (power) "VIN power supply pin", 6 GND (power) "GND supply pin", 7 EP "Exposed Thermal Pad"
text: PP

## TPS6209718RWKT
designator U?
TPS62097 2-A High Efficiency Step-Down Converter with iDCS Control, Forced PWM Mode and Selective Switching Frequency; Manufacturer: Texas Instruments; PartNumber: TPS6209718RWKT; Mounting Technology: Surface Mount; PackageReference: VQFN-11
footprint VQFN-11
pins: 1 PGND (power), 2 SW (power), 3 VOS, 4 FB (in), 5 PG, 6 EN (in), 7 PVIN (power), 8 AVIN (power), 9 SS/TR, 10 MODE (in), 11 AGND (power)


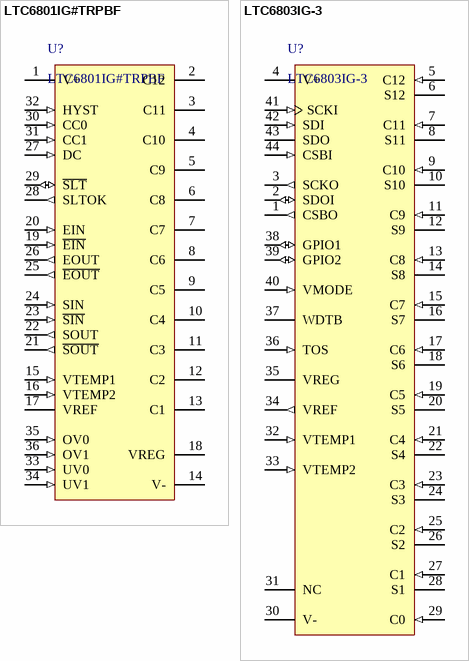
[diagram p23: symbols LTC6801IG#TRPBF to LTC6803IG-3]

## LTC6801IG#TRPBF
designator U?
Manufacturer: Linear Technology; PartNumber: LTC6801IG#TRPBF; Parameter 1: *
footprint TSSOP-36 (SOP, 36-Leads, Body 12.80x5.30mm, Pitch 0.65mm, IPC Medium Density)
pins: 1 V+ (power) "Supply Voltage. Tied to the most positive potential in the battery stack. For example, the same potential as C12 when measuring a stack of 12 cells, or the same potential as C7 when measuring a stack of 7 cells.", 2 C12 (power) "Cell Voltage input. Up to 12 cells can be monitored. The lowest potential is tied to V-. The next lowest potential is tied to C1 and so forth. Due to internal overvoltage protection, each C input must be tied to a potential (See Datasheet)", 3 C11 (power) "Cell Voltage input. Up to 12 cells can be monitored. The lowest potential is tied to V-. The next lowest potential is tied to C1 and so forth. Due to internal overvoltage protection, each C input must be tied to a potential (See Datasheet)", 4 C10 (power) "Cell Voltage input. Up to 12 cells can be monitored. The lowest potential is tied to V-. The next lowest potential is tied to C1 and so forth. Due to internal overvoltage protection, each C input must be tied to a potential (See Datasheet)", 5 C9 (power) "Cell Voltage input. Up to 12 cells can be monitored. The lowest potential is tied to V-. The next lowest potential is tied to C1 and so forth. Due to internal overvoltage protection, each C input must be tied to a potential (See Datasheet)", 6 C8 (power) "Cell Voltage input. Up to 12 cells can be monitored. The lowest potential is tied to V-. The next lowest potential is tied to C1 and so forth. Due to internal overvoltage protection, each C input must be tied to a potential (See Datasheet)", 7 C7 (power) "Cell Voltage input. Up to 12 cells can be monitored. The lowest potential is tied to V-. The next lowest potential is tied to C1 and so forth. Due to internal overvoltage protection, each C input must be tied to a potential (See Datasheet)", 8 C6 (power) "Cell Voltage input. Up to 12 cells can be monitored. The lowest potential is tied to V-. The next lowest potential is tied to C1 and so forth. Due to internal overvoltage protection, each C input must be tied to a potential (See Datasheet)", 9 C5 (power) "Cell Voltage input. Up to 12 cells can be monitored. The lowest potential is tied to V-. The next lowest potential is tied to C1 and so forth. Due to internal overvoltage protection, each C input must be tied to a potential (See Datasheet)", 10 C4 (power) "Cell Voltage input. Up to 12 cells can be monitored. The lowest potential is tied to V-. The next lowest potential is tied to C1 and so forth. Due to internal overvoltage protection, each C input must be tied to a potential (See Datasheet)", 11 C3 (power) "Cell Voltage input. Up to 12 cells can be monitored. The lowest potential is tied to V-. The next lowest potential is tied to C1 and so forth. Due to internal overvoltage protection, each C input must be tied to a potential (See Datasheet)", 12 C2 (power) "Cell Voltage input. Up to 12 cells can be monitored. The lowest potential is tied to V-. The next lowest potential is tied to C1 and so forth. Due to internal overvoltage protection, each C input must be tied to a potential (See Datasheet)", 13 C1 (power) "Cell Voltage input. Up to 12 cells can be monitored. The lowest potential is tied to V-. The next lowest potential is tied to C1 and so forth. Due to internal overvoltage protection, each C input must be tied to a potential (See Datasheet)", 14 V- (power) "Tied to the most negative cell potential (bottom of monitored cell stack).", 15 VTEMP1 (in) "Temperature Sensor input. The ADC will measure the voltages on VTEMP1 and VTEMP2 relative to V-. The ADC measurements are referenced to the VREF pin voltage. Therefore a simple thermistor and resistor combination connected (See Datasheet)", 16 VTEMP2 (in) "Temperature Sensor input. The ADC will measure the voltages on VTEMP1 and VTEMP2 relative to V-. The ADC measurements are referenced to the VREF pin voltage. Therefore a simple thermistor and resistor combination connected (See Datasheet)", 17 VREF (hiz) "Reference Output, Nominally 3.058V. Requires a 1uF bypass capacitor to V-. The VREF pin can drive a 100k resistive load connected to V-. VREF must be buffered with an LT6003 amplifier, or similar device to drive heavier (See Datasheet)", 18 VREG (power) "Regulator Output, Nominally 5V. Requires a 1uF bypass capacitor to V-. The VREG pin is capable of supplying up to 4mA to an external load and is continually enabled.", 19 ~{EIN} (in) "Differential Enable Input. A clock signal greater than 2kHz will enable the LTC6801. For operation with a single-ended enable signal (up to 10kHz), drive EIN and connect a 1nF capacitor from E\I\N\ to V-.", 20 EIN (in) "Differential Enable Input. A clock signal greater than 2kHz will enable the LTC6801. For operation with a single-ended enable signal (up to 10kHz), drive EIN and connect a 1nF capacitor from E\I\N\ to V-.", 21 ~{SOUT} (out) "Differential Status Output. Swings V- to VREG. This output will toggle at the same frequency as EIN/E\I\N\ when a valid signal is detected at SIN/S\I\N\ and the battery stack being monitored is within specified parameters, (See Datasheet)", 22 SOUT (out) "Differential Status Output. Swings V- to VREG. This output will toggle at the same frequency as EIN/E\I\N\ when a valid signal is detected at SIN/S\I\N\ and the battery stack being monitored is within specified parameters, (See Datasheet)", 23 ~{SIN} (in) "Differential status input from the IC above. To indicate that the stack is good, SIN must be the same frequency and phase as EIN. See applications circuits for interfacing SIN to the SOUT above.", 24 SIN (in) "Differential status input from the IC above. To indicate that the stack is good, SIN must be the same frequency and phase as EIN. See applications circuits for interfacing SIN to the SOUT above.", 25 ~{EOUT} (out) "A Buffered Version of EIN/E\I\N\. Swings V- to VREG. Must be capacitively coupled to the EIN/E\I\N\ input of the next higher voltage LTC6801 in a stack, or looped to SIN/S\I\N\ of the same chip (pins 23, 24).", 26 EOUT (out) "A Buffered Version of EIN/E\I\N\. Swings V- to VREG. Must be capacitively coupled to the EIN/E\I\N\ input of the next higher voltage LTC6801 in a stack, or looped to SIN/S\I\N\ of the same chip (pins 23, 24).", 27 DC (in) "Duty Cycle Three-Level Input. This pin may be tied to VREG, VREF or V-. The DC pin selects the duty cycle of the monitoring function and has an internal pullup to VREG. See Table 3.", 28 SLTOK (out) "Self Test Logic Output. SLTOK is held HIGH (VREG voltage) upon reset or successful completion of a self test cycle. A LOW output level (V- voltage) indicates the last self test cycle failed.", 29 ~{SLT} (io) "Self Test Open Collector Input/Output. S\L\T\ initiates a self test cycle when it is pulled low externally. When a high to low transition is detected, the next scheduled measurement cycle will be a self test cycle. S\L\T\ (See Datasheet)", 30 CC0 (in) "Cell Count Three-Level input. These pins may be tied to VREG, VREF or V-. CC1 and CC0 select the number of cells attached to the device and each pin has an internal pull-up to VREG.", 31 CC1 (in) "Cell Count Three-Level input. These pins may be tied to VREG, VREF or V-. CC1 and CC0 select the number of cells attached to the device and each pin has an internal pull-up to VREG.", 32 HYST (in) "Hysteresis Three-Level Input. This pin may be tied to VREG, VREF or V-. HYST selects the amount of hysteresis applied to the undervoltage and overvoltage threshold settings and has an internal pull-down to V-.", 33 UV0 (in) "Undervoltage Three-Level input. These pins may be tied to VREG, VREF or V-. UV1 and UV0 select the undervoltage threshold and each pin has an internal pull-up to VREG.", 34 UV1 (in) "Undervoltage Three-Level input. These pins may be tied to VREG, VREF or V-. UV1 and UV0 select the undervoltage threshold and each pin has an internal pull-up to VREG.", 35 OV0 (in) "Overvoltage Three-Level input. These pins may be tied to VREG, VREF or V-. OV1 and OV0 select the overvoltage threshold and each pin has an internal pull-down to V-.", 36 OV1 (in) "Overvoltage Three-Level input. These pins may be tied to VREG, VREF or V-. OV1 and OV0 select the overvoltage threshold and each pin has an internal pull-down to V-."

## LTC6803IG-3
designator U?
Manufacturer: Linear Technology; PartNumber: LTC6803IG-3#PBF; PackageReference: TSSOP-44; Mounting Technology: Surface Mount; PackageDescription: SOP, 44-Leads, Body 13.1x5.6mm, Pitch 0.5mm
footprint TSSOP-44 (SOP, 44-Leads, Body 13.1x5.6mm, Pitch 0.5mm, IPC High Density)
pins: 1 CSBO (out) "Chip Select Output (Active Low). CSBO is a buffered version of the chip select input, CSBI. CSBO drives the next IC in the daisy chain. See Serial Port in the Applications Information section.", 2 SDOI (io) "Serial Data I/O Pin. SDOI transfers data to and from the next IC in the daisy chain. See Serial Port in the Applications Information section.", 3 SCKO (out) "Serial Clock Output. SCKO is a buffered version of SCKI. SCKO drives the next IC in the daisy chain. See Serial Port in the Applications Information section.", 4 V+ (power) "Positive Power Supply. Pin 4 can be tied to the most positive potential in the battery stack or an isolated power supply. V+ must be greater than the most positive potential in the battery stack under normal operation. With (See Datasheet)", 5 C12 (in) "C1 through C12 are the inputs for monitoring battery cell voltages. The negative terminal of the bottom cell is tied to pin V- for LTC6803-1, pin C0 for LTC6803-3 . The next lowest potential is tied to C1 and so forth. See (See Datasheet)", 6 S12 (hiz) "S1 though S12 pins are used to balance battery cells. If one cell in a series becomes overcharged, an S output can be used to discharge the cell. Each S output has an internal N-channel MOSFET for discharging. See the Block (See Datasheet)", 7 C11 (in) "C1 through C12 are the inputs for monitoring battery cell voltages. The negative terminal of the bottom cell is tied to pin V- for LTC6803-1, pin C0 for LTC6803-3 . The next lowest potential is tied to C1 and so forth. See (See Datasheet)", 8 S11 (hiz) "S1 though S12 pins are used to balance battery cells. If one cell in a series becomes overcharged, an S output can be used to discharge the cell. Each S output has an internal N-channel MOSFET for discharging. See the Block (See Datasheet)", 9 C10 (in) "C1 through C12 are the inputs for monitoring battery cell voltages. The negative terminal of the bottom cell is tied to pin V- for LTC6803-1, pin C0 for LTC6803-3 . The next lowest potential is tied to C1 and so forth. See (See Datasheet)", 10 S10 (hiz) "S1 though S12 pins are used to balance battery cells. If one cell in a series becomes overcharged, an S output can be used to discharge the cell. Each S output has an internal N-channel MOSFET for discharging. See the Block (See Datasheet)", 11 C9 (in) "C1 through C12 are the inputs for monitoring battery cell voltages. The negative terminal of the bottom cell is tied to pin V- for LTC6803-1, pin C0 for LTC6803-3 . The next lowest potential is tied to C1 and so forth. See (See Datasheet)", 12 S9 (hiz) "S1 though S12 pins are used to balance battery cells. If one cell in a series becomes overcharged, an S output can be used to discharge the cell. Each S output has an internal N-channel MOSFET for discharging. See the Block (See Datasheet)", 13 C8 (in) "C1 through C12 are the inputs for monitoring battery cell voltages. The negative terminal of the bottom cell is tied to pin V- for LTC6803-1, pin C0 for LTC6803-3 . The next lowest potential is tied to C1 and so forth. See (See Datasheet)", 14 S8 (hiz) "S1 though S12 pins are used to balance battery cells. If one cell in a series becomes overcharged, an S output can be used to discharge the cell. Each S output has an internal N-channel MOSFET for discharging. See the Block (See Datasheet)", 15 C7 (in) "C1 through C12 are the inputs for monitoring battery cell voltages. The negative terminal of the bottom cell is tied to pin V- for LTC6803-1, pin C0 for LTC6803-3 . The next lowest potential is tied to C1 and so forth. See (See Datasheet)", 16 S7 (hiz) "S1 though S12 pins are used to balance battery cells. If one cell in a series becomes overcharged, an S output can be used to discharge the cell. Each S output has an internal N-channel MOSFET for discharging. See the Block (See Datasheet)", 17 C6 (in) "C1 through C12 are the inputs for monitoring battery cell voltages. The negative terminal of the bottom cell is tied to pin V- for LTC6803-1, pin C0 for LTC6803-3 . The next lowest potential is tied to C1 and so forth. See (See Datasheet)", 18 S6 (hiz) "S1 though S12 pins are used to balance battery cells. If one cell in a series becomes overcharged, an S output can be used to discharge the cell. Each S output has an internal N-channel MOSFET for discharging. See the Block (See Datasheet)", 19 C5 (in) "C1 through C12 are the inputs for monitoring battery cell voltages. The negative terminal of the bottom cell is tied to pin V- for LTC6803-1, pin C0 for LTC6803-3 . The next lowest potential is tied to C1 and so forth. See (See Datasheet)", 20 S5 (hiz) "S1 though S12 pins are used to balance battery cells. If one cell in a series becomes overcharged, an S output can be used to discharge the cell. Each S output has an internal N-channel MOSFET for discharging. See the Block (See Datasheet)", 21 C4 (in) "C1 through C12 are the inputs for monitoring battery cell voltages. The negative terminal of the bottom cell is tied to pin V- for LTC6803-1, pin C0 for LTC6803-3 . The next lowest potential is tied to C1 and so forth. See (See Datasheet)", 22 S4 (hiz) "S1 though S12 pins are used to balance battery cells. If one cell in a series becomes overcharged, an S output can be used to discharge the cell. Each S output has an internal N-channel MOSFET for discharging. See the Block (See Datasheet)", 23 C3 (in) "C1 through C12 are the inputs for monitoring battery cell voltages. The negative terminal of the bottom cell is tied to pin V- for LTC6803-1, pin C0 for LTC6803-3 . The next lowest potential is tied to C1 and so forth. See (See Datasheet)", 24 S3 (hiz) "S1 though S12 pins are used to balance battery cells. If one cell in a series becomes overcharged, an S output can be used to discharge the cell. Each S output has an internal N-channel MOSFET for discharging. See the Block (See Datasheet)", 25 C2 (in) "C1 through C12 are the inputs for monitoring battery cell voltages. The negative terminal of the bottom cell is tied to pin V- for LTC6803-1, pin C0 for LTC6803-3 . The next lowest potential is tied to C1 and so forth. See (See Datasheet)", 26 S2 (hiz) "S1 though S12 pins are used to balance battery cells. If one cell in a series becomes overcharged, an S output can be used to discharge the cell. Each S output has an internal N-channel MOSFET for discharging. See the Block (See Datasheet)", 27 C1 (in) "C1 through C12 are the inputs for monitoring battery cell voltages. The negative terminal of the bottom cell is tied to pin V- for LTC6803-1, pin C0 for LTC6803-3 . The next lowest potential is tied to C1 and so forth. See (See Datasheet)", 28 S1 (hiz) "S1 though S12 pins are used to balance battery cells. If one cell in a series becomes overcharged, an S output can be used to discharge the cell. Each S output has an internal N-channel MOSFET for discharging. See the Block (See Datasheet)", 29 C0 (in) "Negative Terminal of the Bottom Battery Cell. C0 and V- form Kelvin connections to eliminate effect of voltage drop at the V- trace.", 30 V- (power) "Connect V- to the most negative potential in the series of cells.", 31 NC "This pin is not used and is internally connected to V- through 10ohm. It can be left unconnected or connected to V- on the PCB.", 32 VTEMP1 (in) "Temperature Sensor Inputs. The ADC measures the voltage on VTEMPn with respect to V- and stores the result in the TMP registers. The ADC measurements are relative to the VREF pin voltage. Therefore a simple thermistor and (See Datasheet)", 33 VTEMP2 (in) "Temperature Sensor Inputs. The ADC measures the voltage on VTEMPn with respect to V- and stores the result in the TMP registers. The ADC measurements are relative to the VREF pin voltage. Therefore a simple thermistor and (See Datasheet)", 34 VREF (out) "3.065V Voltage Reference Output. This pin should be bypassed with a 1uF capacitor. The VREF pin can drive a 100k resistive load connected to V-. Larger loads should be buffered with an LT6003 op amp, or similar device.", 35 VREG (power) "Linear Voltage Regulator Output. This pin should be bypassed with a 1uF capacitor. The VREG pin is capable of supplying up to 4mA to an external load. The VREG pin does not sink current.", 36 TOS (in) "Top of Stack Input. Tie TOS to VREG when the LTC6803-1 or LTC6803-3 is the top device in a daisy chain. Tie TOS to V- otherwise. When TOS is tied to VREG, the LTC6803-1 or LTC6803-3 ignores the SDOI input and SCKO, CSBO are (See Datasheet)", 37 WDTB (oc) "Watchdog Timer Output (Active Low). If there is no valid command received for 1 to 2.5 seconds, the WDTB output is asserted. The WDTB pin is an open-drain NMOS output. When asserted it pulls the output down to V- and resets (See Datasheet)", 38 GPIO1 (io) "General Purpose Input/Output. By writing a “0” to a GPIO configuration register bit, the open-drain output is activated and the pin is pulled to V-. By writing logic “1” to the configuration register b(See Datasheet)", 39 GPIO2 (io) "General Purpose Input/Output. By writing a “0” to a GPIO configuration register bit, the open-drain output is activated and the pin is pulled to V-. By writing logic “1” to the configuration register b(See Datasheet)", 40 VMODE (in) "Voltage Mode Input. When VMODE is tied to VREG, the SCKI, SDI, SDO and CSBI pins are configured as voltage inputs and outputs. This means these pins accept standard TTL logic levels. Connect VMODE to VREG when the LTC6803-1 (See Datasheet)", 41 SCKI (in) "Serial Clock Input. The SCKI pin interfaces to any logic gate (TTL levels) if VMODE is tied to VREG. SCKI must be driven by the SCKO pin of another LTC6803-1 or LTC6803-3 if VMODE is tied to V-. See Serial Port in the (See Datasheet)", 42 SDI (in) "Serial Data Input. The SDI pin interfaces to any logic gate (TTL levels) if VMODE is tied to VREG. SDI must be driven by the SDOI pin of another LTC6803-1 or LTC6803-3 if VMODE is tied to V-. See Serial Port in the (See Datasheet)", 43 SDO (oc) "Serial Data Output. The SDO pin is an NMOS open-drain output if VMODE is tied to VREG. A pull-up resistor is needed on SDO. SDO is not used if VMODE is tied to V-. See Serial Port in the Applications Information section.", 44 CSBI (in) "Chip Select (Active Low) Input. The CSBI pin interfaces to any logic gate (TTL levels) if VMODE is tied to VREG. CSBI must be driven by the CSBO pin of another LTC6803-1 or LTC6803-3 if VMODE is tied to V-. See Serial Port (See Datasheet)"


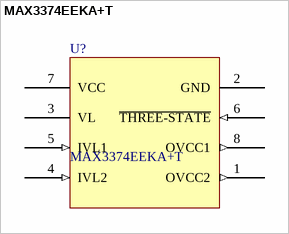
[diagram p24: symbol MAX3374EEKA+T]

## MAX3374EEKA+T
designator U?
Translation - Voltage Levels +/-15kV ESD-Protected, 1 uA, 16Mbps, Dual/Quad Low-Voltage Level Translators; Manufacturer: Maxim Integrated; PartNumber: MAX3374EEKA+T; Mounting Technology: Surface Mount; PackageReference: SOT23-8
footprint SOT-23-8 (SOT23, 8-Leads, Body 2.90x1.60mm, Pitch 0.65mm, IPC Medium Density)
pins: 1 OVCC2 (out), 2 GND (power), 3 VL (power), 4 IVL2 (in), 5 IVL1 (in), 6 ~{THREE-STATE} (in), 7 VCC (power), 8 OVCC1 (out)


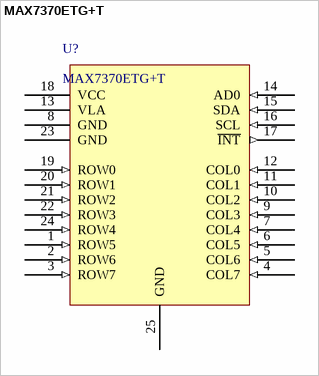
[diagram p25: symbol MAX7370ETG+T]

## MAX7370ETG+T
designator U?
Display Drivers & Controllers 8 x 8 Key-Switch Controller & LED Driver/GPIOs w I2C Interface & IEC Lvl 4 ESD Protection; Manufacturer: Maxim Integrated; PartNumber: MAX7370ETG+T; PackageReference: TQFN-CU-24; Mounting Technology: Surface Mount
footprint QFN-24 (3.5X3.5MM) (QFN, 24-Leads, Body 3.50x3.50mm, Pitch 0.40mm, Thermal Pad 2.30x2.30mm, IPC Medium Density)
pins: 1 ROW5 (in), 2 ROW6 (in), 3 ROW7 (in), 4 COL7 (in), 5 COL6 (in), 6 COL5 (in), 7 COL4 (in), 8 GND (power), 9 COL3 (in), 10 COL2 (in), 11 COL1 (in), 12 COL0 (in), 13 VLA (power), 14 AD0 (in), 15 SDA (in), 16 SCL (in), 17 ~{INT} (out), 18 VCC (power), 19 ROW0 (in), 20 ROW1 (in), 21 ROW2 (in), 22 ROW3 (in), 23 GND (power), 24 ROW4 (in), 25 GND (power)


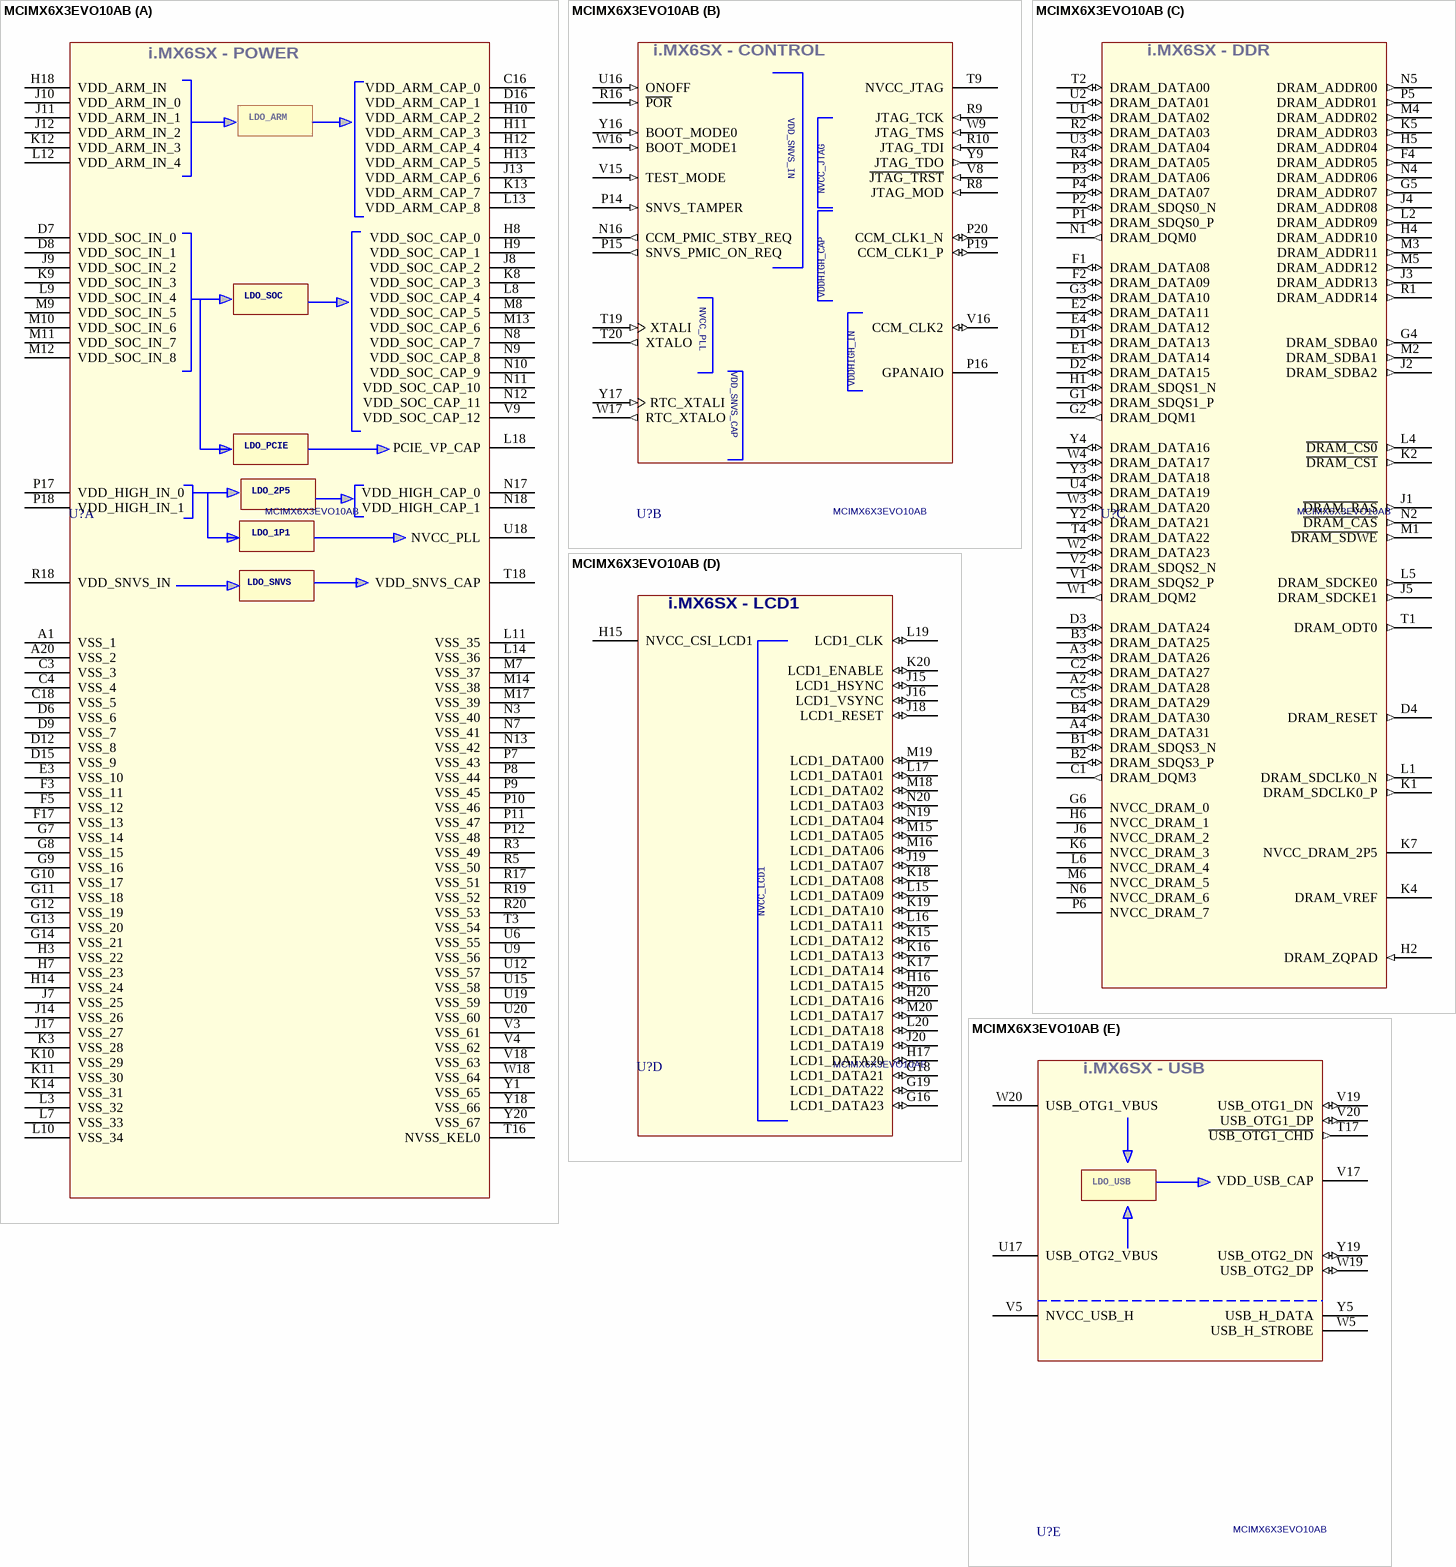
[diagram p26: symbol MCIMX6X3EVO10AB]

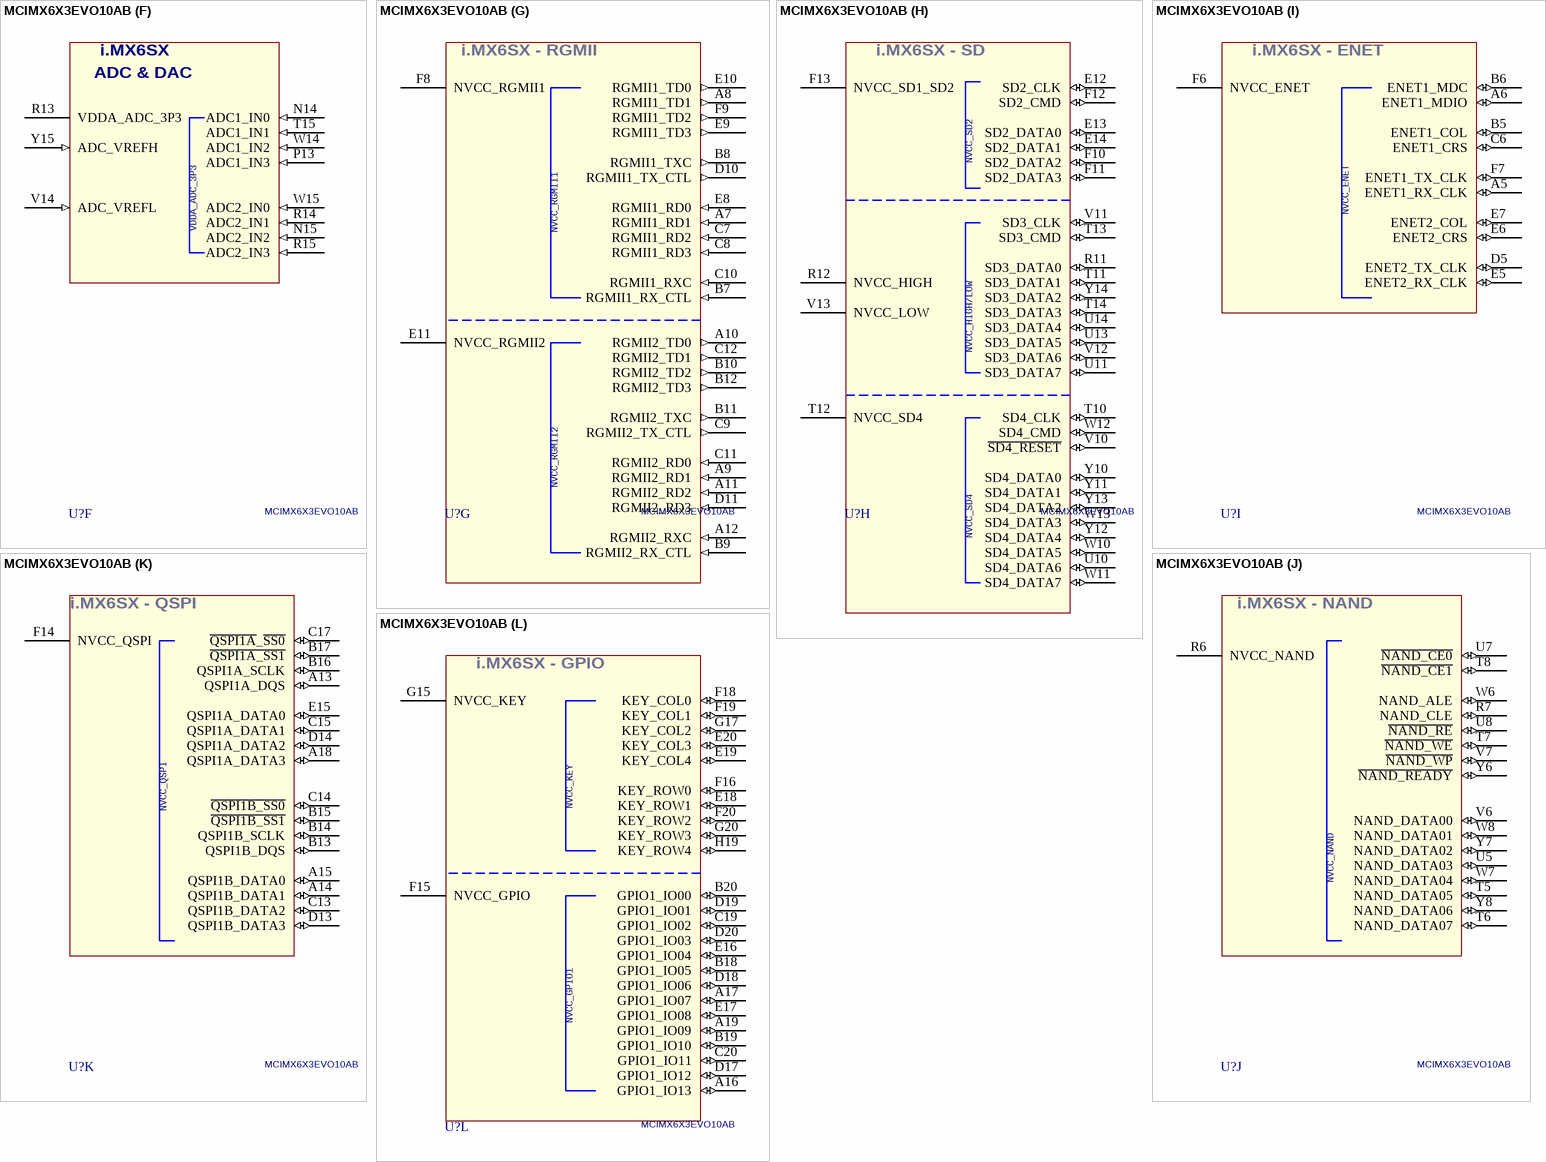
[diagram p27: symbol MCIMX6X3EVO10AB]